# EAGLE library part AD9708ARZ (library collin)
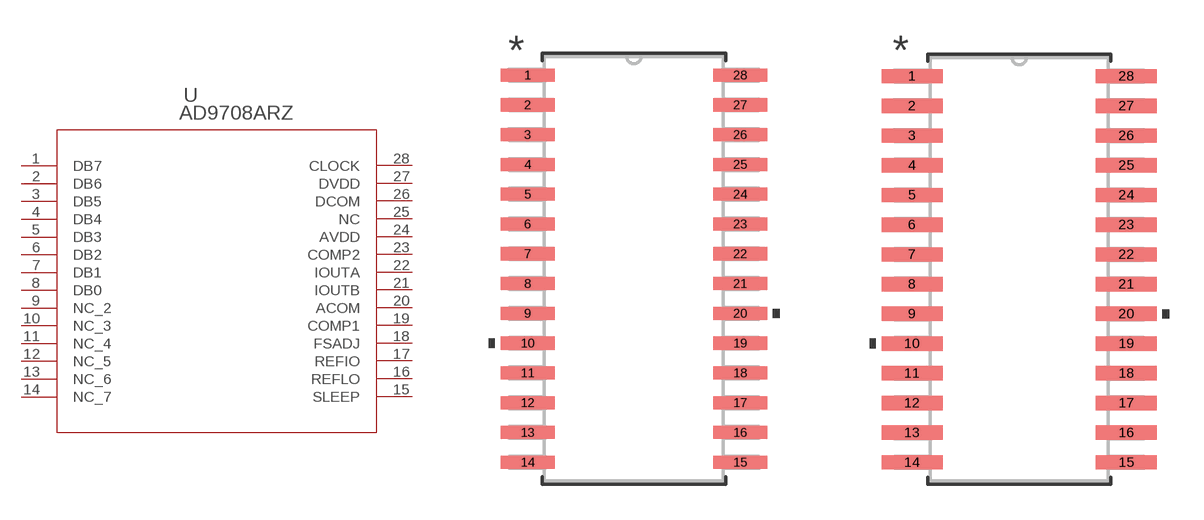
[diagram p11: symbol with the pads of RW_28; footprints RW_28, RW_28-M]

Designator prefix U

## AD9708ARZ (MANUFACTURER_PART_NUMBER: AD9708ARZ; VENDOR: Analog Devices Inc)  [RW_28]
1  DB7  pas
2  DB6  pas
3  DB5  pas
4  DB4  pas
5  DB3  pas
6  DB2  pas
7  DB1  pas
8  DB0  pas
9  NC_2  pas
10  NC_3  pas
11  NC_4  pas
12  NC_5  pas
13  NC_6  pas
14  NC_7  pas
15  SLEEP  pas
16  REFLO  pas
17  REFIO  pas
18  FSADJ  pas
19  COMP1  pas
20  ACOM  pas
21  IOUTB  pas
22  IOUTA  pas
23  COMP2  pas
24  AVDD  pwr
25  NC  pas
26  DCOM  pas
27  DVDD  pwr
28  CLOCK  pas

## AD9708ARZRW_28-M (MANUFACTURER_PART_NUMBER: AD9708ARZ; VENDOR: Analog Devices Inc)  [RW_28-M]
Pads as for RW_28

## AD9708ARZRW_28-L (MANUFACTURER_PART_NUMBER: AD9708ARZ; VENDOR: Analog Devices Inc)  [RW_28-L]
Pads as for RW_28

## Footprint RW_28 (pad centres in mm)
smd 2.299 x 0.559: 1 -4.528,8.255; 2 -4.528,6.985; 3 -4.528,5.715; 4 -4.528,4.445; 5 -4.528,3.175; 6 -4.528,1.905; 7 -4.528,0.635; 8 -4.528,-0.635; 9 -4.528,-1.905; 10 -4.528,-3.175; 11 -4.528,-4.445; 12 -4.528,-5.715; 13 -4.528,-6.985; 14 -4.528,-8.255; 15 4.528,-8.255; 16 4.528,-6.985; 17 4.528,-5.715; 18 4.528,-4.445; 19 4.528,-3.175; 20 4.528,-1.905; 21 4.528,-0.635; 22 4.528,0.635; 23 4.528,1.905; 24 4.528,3.175; 25 4.528,4.445; 26 4.528,5.715; 27 4.528,6.985; 28 4.528,8.255

## Footprint RW_28-M (pad centres in mm)
smd 2.603 x 0.61: 1 -4.578,8.255; 2 -4.578,6.985; 3 -4.578,5.715; 4 -4.578,4.445; 5 -4.578,3.175; 6 -4.578,1.905; 7 -4.578,0.635; 8 -4.578,-0.635; 9 -4.578,-1.905; 10 -4.578,-3.175; 11 -4.578,-4.445; 12 -4.578,-5.715; 13 -4.578,-6.985; 14 -4.578,-8.255; 15 4.578,-8.255; 16 4.578,-6.985; 17 4.578,-5.715; 18 4.578,-4.445; 19 4.578,-3.175; 20 4.578,-1.905; 21 4.578,-0.635; 22 4.578,0.635; 23 4.578,1.905; 24 4.578,3.175; 25 4.578,4.445; 26 4.578,5.715; 27 4.578,6.985; 28 4.578,8.255

## Footprint RW_28-L (pad centres in mm)
smd 1.994 x 0.508: 1 -4.477,8.255; 2 -4.477,6.985; 3 -4.477,5.715; 4 -4.477,4.445; 5 -4.477,3.175; 6 -4.477,1.905; 7 -4.477,0.635; 8 -4.477,-0.635; 9 -4.477,-1.905; 10 -4.477,-3.175; 11 -4.477,-4.445; 12 -4.477,-5.715; 13 -4.477,-6.985; 14 -4.477,-8.255; 15 4.477,-8.255; 16 4.477,-6.985; 17 4.477,-5.715; 18 4.477,-4.445; 19 4.477,-3.175; 20 4.477,-1.905; 21 4.477,-0.635; 22 4.477,0.635; 23 4.477,1.905; 24 4.477,3.175; 25 4.477,4.445; 26 4.477,5.715; 27 4.477,6.985; 28 4.477,8.255